# EAGLE library part BNO085_SLIMEVR_PAD (library BNO085_SmileVR_Module)
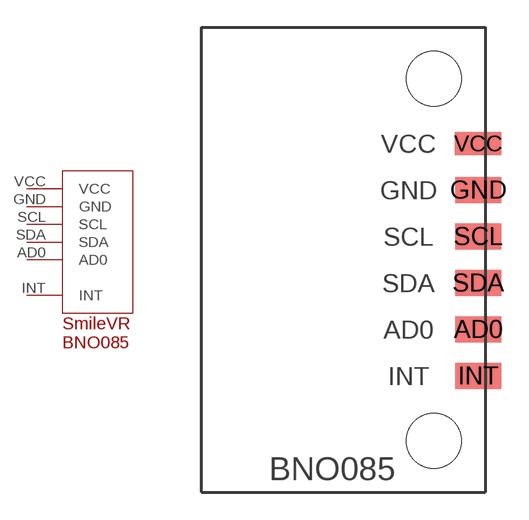
[diagram p1: symbol with the pads of BNO085_MODULE_PAD; footprint BNO085_MODULE_PAD]

Designator prefix -

## BNO085_SLIMEVR_PAD  [BNO085_MODULE_PAD]
AD0  AD0
GND  GND
INT  INT
SCL  SCL
SDA  SDA
VCC  VCC

## Footprint BNO085_MODULE_PAD (pad centres in mm)
smd 2.5 x 1.4: AD0 13.97,-15.24; GND 13.97,-7.62; INT 13.97,-17.78; SCL 13.97,-10.16; SDA 13.97,-12.7
smd 2.54 x 1.27: VCC 13.97,-5.08
hole 3 at 11.55,-21.336
hole 3 at 11.55,-1.524